# EAGLE library part 634108149621 (library Wurth_Elektronik_Electromechanic_Input-Output_Connectors_rev15c)
WR-MJ_Modular Jack_Top Entry_8P8C 8P8C Top Entry with Solder Tab_T&R with Mylar <http://katalog.we-online.de/media/images/eican/Con_I-O_MJ_Vertical_Plastic_Top%20Entry_8P8C_634108149621_pf2.jpg> Details see: http://katalog.we-online.de/en/em/634_108_149_621/634_108_149_621?m Created 2014-10-18, aslant tao 2014 (C) Würth Elektronik
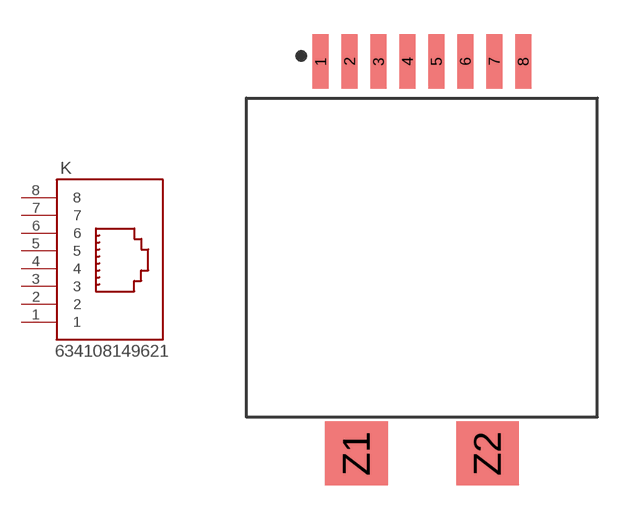
[diagram p177: symbol with the pads of 634108149621; footprint 634108149621]

Designator prefix K

## 634108149621  [634108149621]
1  1  pas
2  2  pas
3  3  pas
4  4  pas
5  5  pas
6  6  pas
7  7  pas
8  8  pas

## Footprint 634108149621 (pad centres in mm)
WR-MJ_Modular Jack_Top Entry_8P8C 8P8C Top Entry with Solder Tab_T&R with Mylar
smd 0.7 x 2.4: 1 -4.445,0; 2 -3.175,0; 3 -1.905,0; 4 -0.635,0; 5 0.635,0; 6 1.905,0; 7 3.175,0; 8 4.445,0
smd 2.75 x 2.8: Z1 -2.875,-17.2; Z2 2.875,-17.2